# Altium schematic symbol library Allwinner A33.Schlib: 1 symbol
Pins are listed as number, name and electrical type; pins without a type are passive.

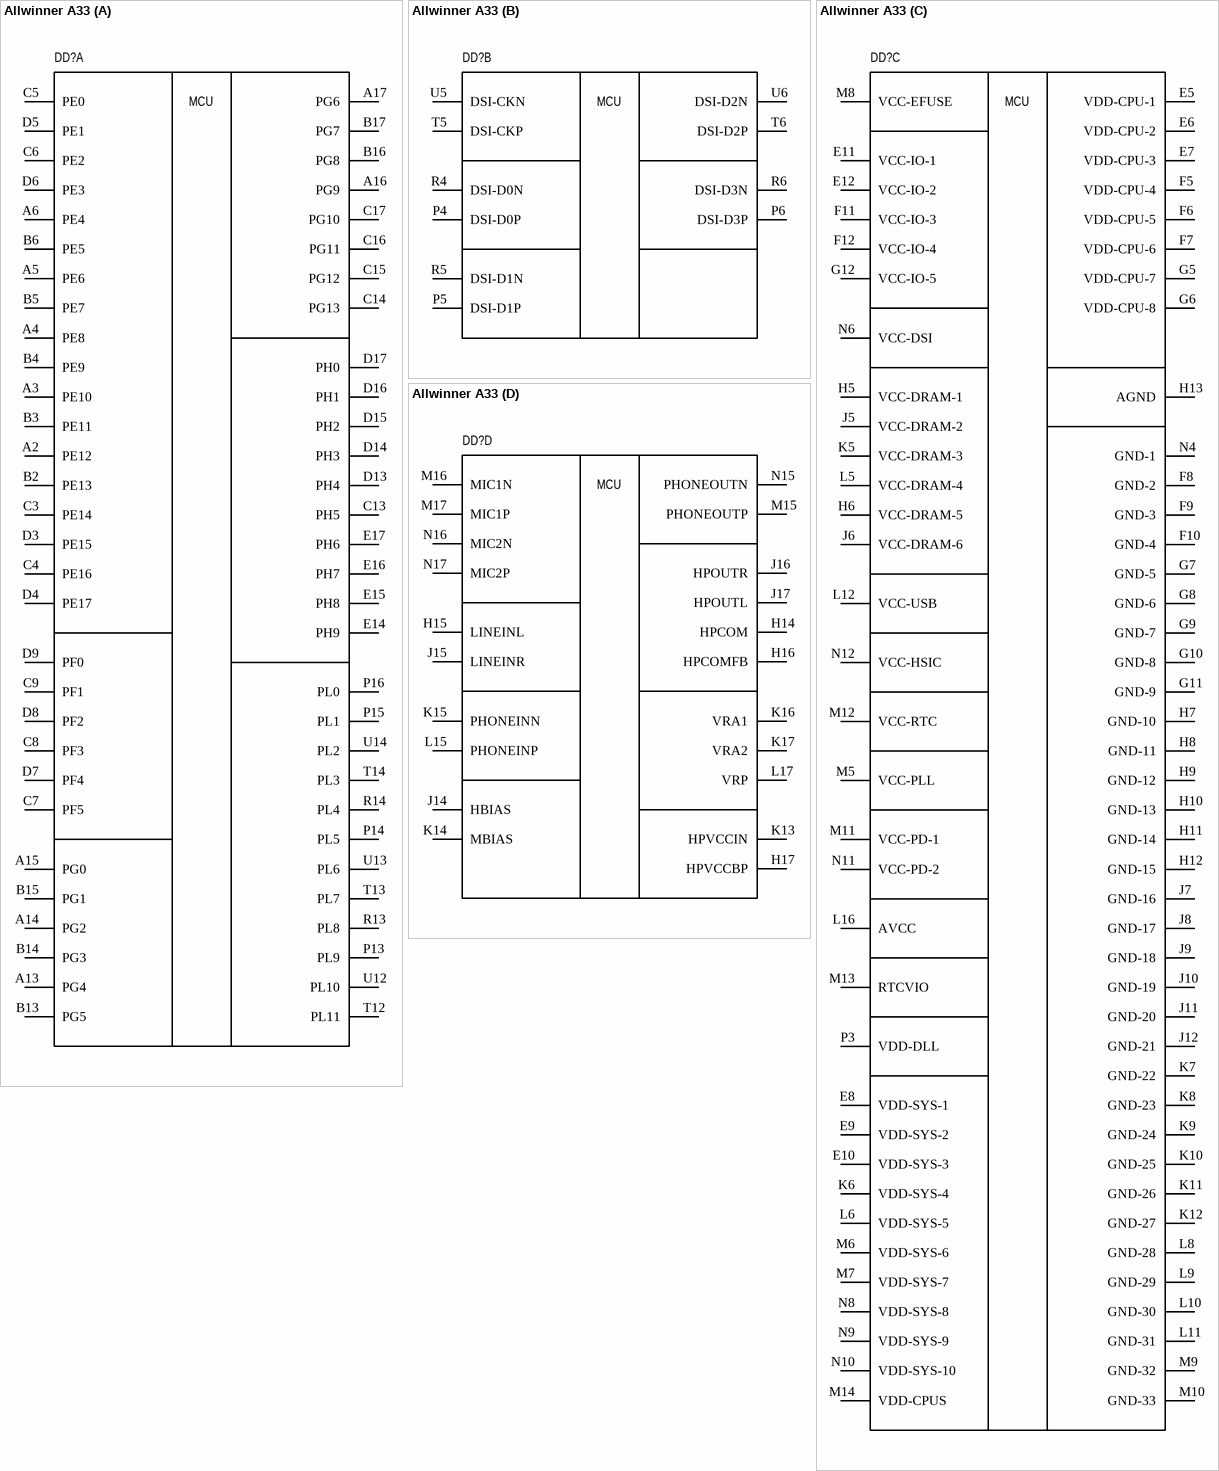
[diagram p0: symbol Allwinner A33]

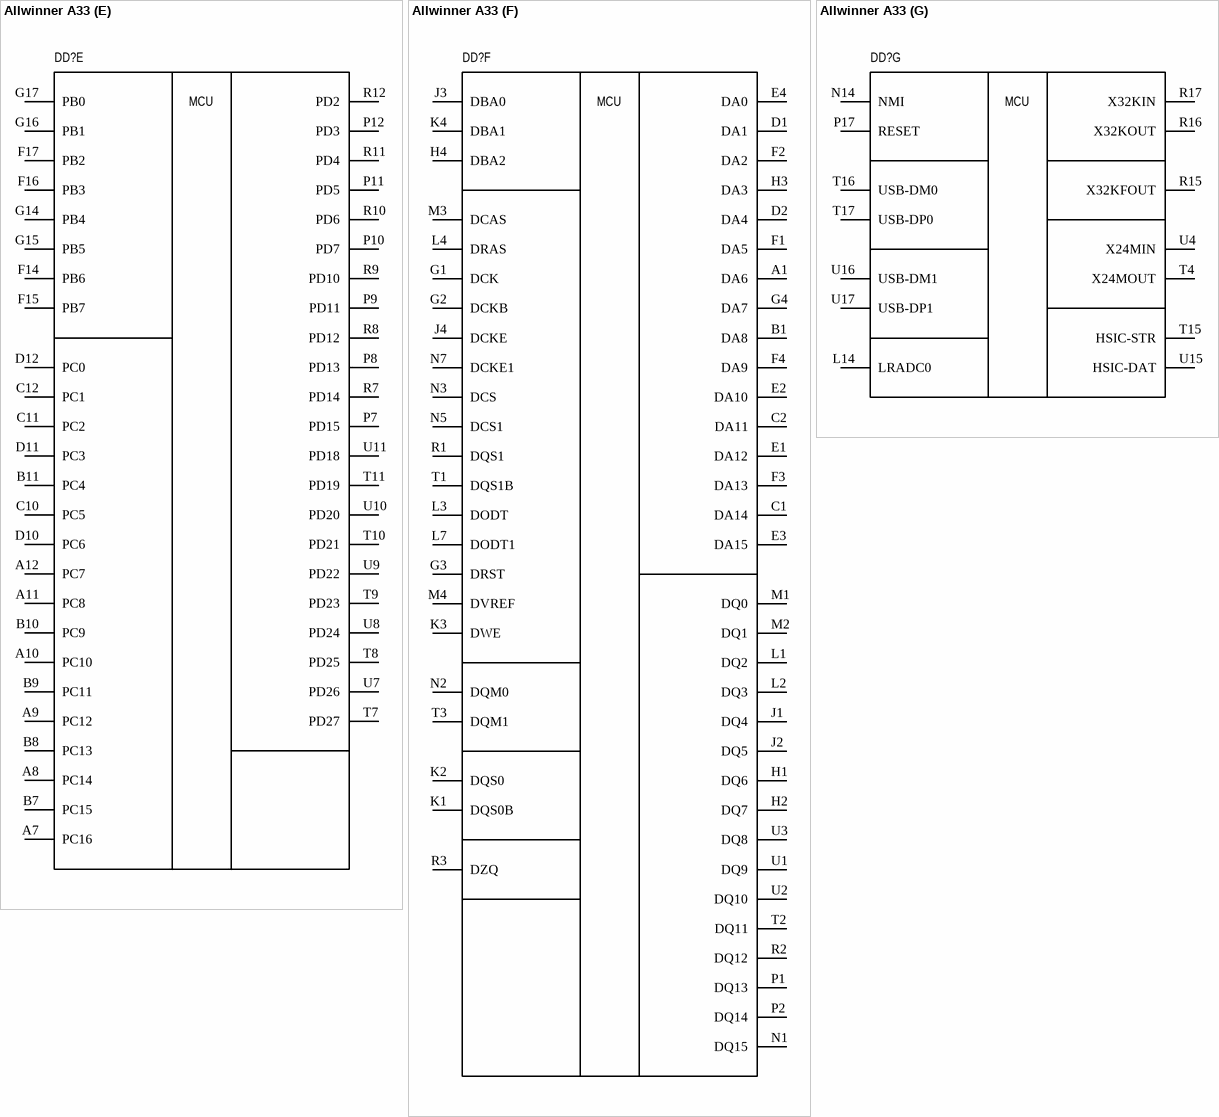
[diagram p1: symbol Allwinner A33]

## Allwinner A33
designator DD?
part A pins: A2 PE12, A3 PE10, A4 PE8, A5 PE6, A6 PE4, A13 PG4, A14 PG2, A15 PG0, A16 PG9, A17 PG6, B2 PE13, B3 PE11, B4 PE9, B5 PE7, B6 PE5, B13 PG5, B14 PG3, B15 PG1, B16 PG8, B17 PG7, C3 PE14, C4 PE16, C5 PE0, C6 PE2, C7 PF5, C8 PF3, C9 PF1, C13 PH5, C14 PG13, C15 PG12, C16 PG11, C17 PG10, D3 PE15, D4 PE17, D5 PE1, D6 PE3, D7 PF4, D8 PF2, D9 PF0, D13 PH4, D14 PH3, D15 PH2, D16 PH1, D17 PH0, E14 PH9, E15 PH8, E16 PH7, E17 PH6, P13 PL9, P14 PL5, P15 PL1, P16 PL0, R13 PL8, R14 PL4, T12 PL11, T13 PL7, T14 PL3, U12 PL10, U13 PL6, U14 PL2
part B pins: P4 DSI-D0P, P5 DSI-D1P, P6 DSI-D3P, R4 DSI-D0N, R5 DSI-D1N, R6 DSI-D3N, T5 DSI-CKP, T6 DSI-D2P, U5 DSI-CKN, U6 DSI-D2N
part C pins: E5 VDD-CPU-1, E6 VDD-CPU-2, E7 VDD-CPU-3, E8 VDD-SYS-1, E9 VDD-SYS-2, E10 VDD-SYS-3, E11 VCC-IO-1, E12 VCC-IO-2, F5 VDD-CPU-4, F6 VDD-CPU-5, F7 VDD-CPU-6, F8 GND-2, F9 GND-3, F10 GND-4, F11 VCC-IO-3, F12 VCC-IO-4, G5 VDD-CPU-7, G6 VDD-CPU-8, G7 GND-5, G8 GND-6, G9 GND-7, G10 GND-8, G11 GND-9, G12 VCC-IO-5, H5 VCC-DRAM-1, H6 VCC-DRAM-5, H7 GND-10, H8 GND-11, H9 GND-12, H10 GND-13, H11 GND-14, H12 GND-15, H13 AGND, J5 VCC-DRAM-2, J6 VCC-DRAM-6, J7 GND-16, J8 GND-17, J9 GND-18, J10 GND-19, J11 GND-20, J12 GND-21, K5 VCC-DRAM-3, K6 VDD-SYS-4, K7 GND-22, K8 GND-23, K9 GND-24, K10 GND-25, K11 GND-26, K12 GND-27, L5 VCC-DRAM-4, L6 VDD-SYS-5, L8 GND-28, L9 GND-29, L10 GND-30, L11 GND-31, L12 VCC-USB, L16 AVCC, M5 VCC-PLL, M6 VDD-SYS-6, M7 VDD-SYS-7, M8 VCC-EFUSE, M9 GND-32, M10 GND-33, M11 VCC-PD-1, M12 VCC-RTC, M13 RTCVIO, M14 VDD-CPUS, N4 GND-1, N6 VCC-DSI, N8 VDD-SYS-8, N9 VDD-SYS-9, N10 VDD-SYS-10, N11 VCC-PD-2, N12 VCC-HSIC, P3 VDD-DLL
part D pins: H14 HPCOM, H15 LINEINL, H16 HPCOMFB, H17 HPVCCBP, J14 HBIAS, J15 LINEINR, J16 HPOUTR, J17 HPOUTL, K13 HPVCCIN, K14 MBIAS, K15 PHONEINN, K16 VRA1, K17 VRA2, L15 PHONEINP, L17 VRP, M15 PHONEOUTP, M16 MIC1N, M17 MIC1P, N15 PHONEOUTN, N16 MIC2N, N17 MIC2P
part E pins: A7 PC16, A8 PC14, A9 PC12, A10 PC10, A11 PC8, A12 PC7, B7 PC15, B8 PC13, B9 PC11, B10 PC9, B11 PC4, C10 PC5, C11 PC2, C12 PC1, D10 PC6, D11 PC3, D12 PC0, F14 PB6, F15 PB7, F16 PB3, F17 PB2, G14 PB4, G15 PB5, G16 PB1, G17 PB0, P7 PD15, P8 PD13, P9 PD11, P10 PD7, P11 PD5, P12 PD3, R7 PD14, R8 PD12, R9 PD10, R10 PD6, R11 PD4, R12 PD2, T7 PD27, T8 PD25, T9 PD23, T10 PD21, T11 PD19, U7 PD26, U8 PD24, U9 PD22, U10 PD20, U11 PD18
part F pins: A1 DA6, B1 DA8, C1 DA14, C2 DA11, D1 DA1, D2 DA4, E1 DA12, E2 DA10, E3 DA15, E4 DA0, F1 DA5, F2 DA2, F3 DA13, F4 DA9, G1 DCK, G2 DCKB, G3 DRST, G4 DA7, H1 DQ6, H2 DQ7, H3 DA3, H4 DBA2, J1 DQ4, J2 DQ5, J3 DBA0, J4 DCKE, K1 DQS0B, K2 DQS0, K3 DWE, K4 DBA1, L1 DQ2, L2 DQ3, L3 DODT, L4 DRAS, L7 DODT1, M1 DQ0, M2 DQ1, M3 DCAS, M4 DVREF, N1 DQ15, N2 DQM0, N3 DCS, N5 DCS1, N7 DCKE1, P1 DQ13, P2 DQ14, R1 DQS1, R2 DQ12, R3 DZQ, T1 DQS1B, T2 DQ11, T3 DQM1, U1 DQ9, U2 DQ10, U3 DQ8
part G pins: L14 LRADC0, N14 NMI, P17 RESET, R15 X32KFOUT, R16 X32KOUT, R17 X32KIN, T4 X24MOUT, T15 HSIC-STR, T16 USB-DM0, T17 USB-DP0, U4 X24MIN, U15 HSIC-DAT, U16 USB-DM1, U17 USB-DP1
part A text: MCU
part B text: MCU
part C text: MCU
part D text: MCU
part E text: MCU
part F text: MCU
part G text: MCU